# Altium footprint library mamsense_button.PcbLib: 197 footprints (part 8 of 13)
Each footprint in its own frame and in the unit in brackets; x right, y up, seen from the top. Pads: shape width x height; smd on the part's side, far side on the other; paste and mask are expansions set on the pad; w line width, h text height; cw(c..) or ccw(c..) is an arc to the next point about the centre after c.
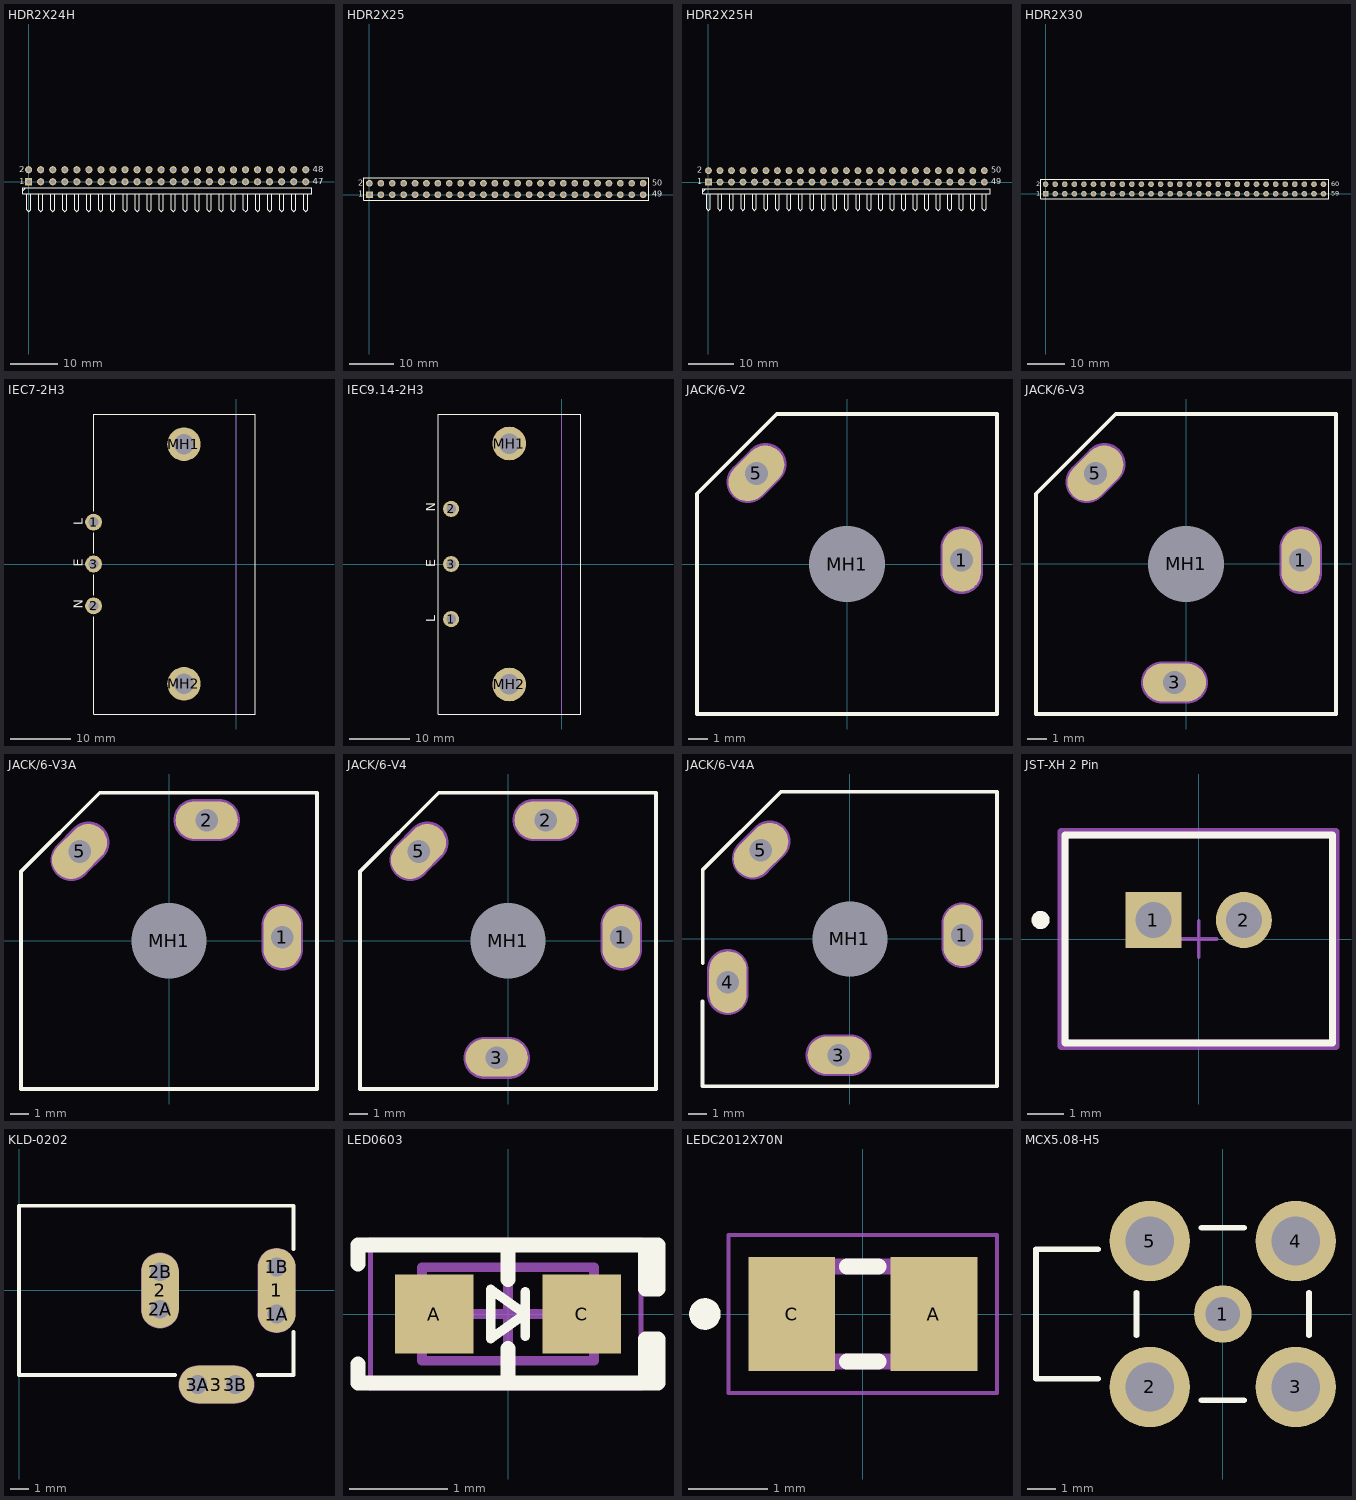
[diagram p7: the footprints below, top view; thin cyan lines are the x and y axes]

## HDR2X24H [mm] "Connector; Header; 24x2 Position; Right Angle"
pads (48):
  rect 1.5x1.5 hole 0.9: 1(0,0)
  round 1.5 hole 0.9: 2(0,2.54) 3(2.54,0) 4(2.54,2.54) 5(5.08,0) 6(5.08,2.54) 7(7.62,0) 8(7.62,2.54) 9(10.16,0) 10(10.16,2.54) 11(12.7,0) 12(12.7,2.54) 13(15.24,0) 14(15.24,2.54) 15(17.78,0) 16(17.78,2.54) 17(20.32,0) 18(20.32,2.54) 19(22.86,0) 20(22.86,2.54) 21(25.4,0) 22(25.4,2.54) 23(27.94,0) 24(27.94,2.54) 25(30.48,0) 26(30.48,2.54) 27(33.02,0) 28(33.02,2.54) 29(35.56,0) 30(35.56,2.54) 31(38.1,0) 32(38.1,2.54) 33(40.64,0) 34(40.64,2.54) 35(43.18,0) 36(43.18,2.54) 37(45.72,0) 38(45.72,2.54) 39(48.26,0) 40(48.26,2.54) 41(50.8,0) 42(50.8,2.54) 43(53.34,0) 44(53.34,2.54) 45(55.88,0) 46(55.88,2.54) 47(58.42,0) 48(58.42,2.54)
Top Overlay:
  lines w0.2: -1.27,-1.905 -0.635,-1.27 ; -0.423,-2.54 -0.423,-5.927 0,-6.35 0.423,-5.927 0.423,-2.54 ; 2.117,-2.54 2.117,-5.927 2.54,-6.35 2.963,-5.927 2.963,-2.54 ; 4.657,-2.54 4.657,-5.927 5.08,-6.35 5.503,-5.927 5.503,-2.54 ; 7.197,-2.54 7.197,-5.927 7.62,-6.35 8.043,-5.927 8.043,-2.54 ; 9.737,-2.54 9.737,-5.927 10.16,-6.35 10.583,-5.927 10.583,-2.54 ; 12.277,-2.54 12.277,-5.927 12.7,-6.35 13.123,-5.927 13.123,-2.54 ; 14.817,-2.54 14.817,-5.927 15.24,-6.35 15.663,-5.927 15.663,-2.54 ; 17.357,-2.54 17.357,-5.927 17.78,-6.35 18.203,-5.927 18.203,-2.54 ; 19.897,-2.54 19.897,-5.927 20.32,-6.35 20.743,-5.927 20.743,-2.54 ; 22.437,-2.54 22.437,-5.927 22.86,-6.35 23.283,-5.927 23.283,-2.54 ; 24.977,-2.54 24.977,-5.927 25.4,-6.35 25.823,-5.927 25.823,-2.54 ; 27.517,-2.54 27.517,-5.927 27.94,-6.35 28.363,-5.927 28.363,-2.54 ; 30.057,-2.54 30.057,-5.927 30.48,-6.35 30.903,-5.927 30.903,-2.54 ; 32.597,-2.54 32.597,-5.927 33.02,-6.35 33.443,-5.927 33.443,-2.54 ; 35.137,-2.54 35.137,-5.927 35.56,-6.35 35.983,-5.927 35.983,-2.54 ; 37.677,-2.54 37.677,-5.927 38.1,-6.35 38.523,-5.927 38.523,-2.54 ; 40.217,-2.54 40.217,-5.927 40.64,-6.35 41.063,-5.927 41.063,-2.54 ; 42.757,-2.54 42.757,-5.927 43.18,-6.35 43.603,-5.927 43.603,-2.54 ; 45.297,-2.54 45.297,-5.927 45.72,-6.35 46.143,-5.927 46.143,-2.54 ; 47.837,-2.54 47.837,-5.927 48.26,-6.35 48.683,-5.927 48.683,-2.54 ; 50.377,-2.54 50.377,-5.927 50.8,-6.35 51.223,-5.927 51.223,-2.54 ; 52.917,-2.54 52.917,-5.927 53.34,-6.35 53.763,-5.927 53.763,-2.54 ; 55.457,-2.54 55.457,-5.927 55.88,-6.35 56.303,-5.927 56.303,-2.54 ; 57.997,-2.54 57.997,-5.927 58.42,-6.35 58.843,-5.927 58.843,-2.54 ; -1.27,-2.54 59.69,-2.54 59.69,-1.27 -1.27,-1.27 -1.27,-2.54
  text "2" at -2.032,2.032 h1.27
  text "1" at -2.032,-0.508 h1.27
  text "47" at 59.944,-0.508 h1.27
  text "48" at 59.944,2.032 h1.27

## HDR2X25 [mm] "Connector; Header; 25x2 Position"
pads (50):
  rect 1.5x1.5 hole 0.9: 1(0,0)
  round 1.5 hole 0.9: 2(0,2.54) 3(2.54,0) 4(2.54,2.54) 5(5.08,0) 6(5.08,2.54) 7(7.62,0) 8(7.62,2.54) 9(10.16,0) 10(10.16,2.54) 11(12.7,0) 12(12.7,2.54) 13(15.24,0) 14(15.24,2.54) 15(17.78,0) 16(17.78,2.54) 17(20.32,0) 18(20.32,2.54) 19(22.86,0) 20(22.86,2.54) 21(25.4,0) 22(25.4,2.54) 23(27.94,0) 24(27.94,2.54) 25(30.48,0) 26(30.48,2.54) 27(33.02,0) 28(33.02,2.54) 29(35.56,0) 30(35.56,2.54) 31(38.1,0) 32(38.1,2.54) 33(40.64,0) 34(40.64,2.54) 35(43.18,0) 36(43.18,2.54) 37(45.72,0) 38(45.72,2.54) 39(48.26,0) 40(48.26,2.54) 41(50.8,0) 42(50.8,2.54) 43(53.34,0) 44(53.34,2.54) 45(55.88,0) 46(55.88,2.54) 47(58.42,0) 48(58.42,2.54) 49(60.96,0) 50(60.96,2.54)
Top Overlay:
  lines w0.2: -1.27,-1.27 62.23,-1.27 62.23,3.81 -1.27,3.81 -1.27,-1.27
  text "50" at 62.992,2.032 h1.27
  text "49" at 62.992,-0.508 h1.27
  text "1" at -2.54,-0.508 h1.27
  text "2" at -2.54,2.032 h1.27

## HDR2X25H [mm] "Connector; Header; 25x2 Position; Right Angle"
pads (50):
  rect 1.5x1.5 hole 0.9: 1(0,0)
  round 1.5 hole 0.9: 2(0,2.54) 3(2.54,0) 4(2.54,2.54) 5(5.08,0) 6(5.08,2.54) 7(7.62,0) 8(7.62,2.54) 9(10.16,0) 10(10.16,2.54) 11(12.7,0) 12(12.7,2.54) 13(15.24,0) 14(15.24,2.54) 15(17.78,0) 16(17.78,2.54) 17(20.32,0) 18(20.32,2.54) 19(22.86,0) 20(22.86,2.54) 21(25.4,0) 22(25.4,2.54) 23(27.94,0) 24(27.94,2.54) 25(30.48,0) 26(30.48,2.54) 27(33.02,0) 28(33.02,2.54) 29(35.56,0) 30(35.56,2.54) 31(38.1,0) 32(38.1,2.54) 33(40.64,0) 34(40.64,2.54) 35(43.18,0) 36(43.18,2.54) 37(45.72,0) 38(45.72,2.54) 39(48.26,0) 40(48.26,2.54) 41(50.8,0) 42(50.8,2.54) 43(53.34,0) 44(53.34,2.54) 45(55.88,0) 46(55.88,2.54) 47(58.42,0) 48(58.42,2.54) 49(60.96,0) 50(60.96,2.54)
Top Overlay:
  lines w0.2: -1.27,-2.117 -0.635,-1.482 ; -0.423,-2.54 -0.423,-5.927 0,-6.35 0.423,-5.927 0.423,-2.54 ; 2.117,-2.54 2.117,-5.927 2.54,-6.35 2.963,-5.927 2.963,-2.54 ; 4.657,-2.54 4.657,-5.927 5.08,-6.35 5.503,-5.927 5.503,-2.54 ; 7.197,-2.54 7.197,-5.927 7.62,-6.35 8.043,-5.927 8.043,-2.54 ; 9.737,-2.54 9.737,-5.927 10.16,-6.35 10.583,-5.927 10.583,-2.54 ; 12.277,-2.54 12.277,-5.927 12.7,-6.35 13.123,-5.927 13.123,-2.54 ; 14.817,-2.54 14.817,-5.927 15.24,-6.35 15.663,-5.927 15.663,-2.54 ; 17.357,-2.54 17.357,-5.927 17.78,-6.35 18.203,-5.927 18.203,-2.54 ; 19.897,-2.54 19.897,-5.927 20.32,-6.35 20.743,-5.927 20.743,-2.54 ; 22.437,-2.54 22.437,-5.927 22.86,-6.35 23.283,-5.927 23.283,-2.54 ; 24.977,-2.54 24.977,-5.927 25.4,-6.35 25.823,-5.927 25.823,-2.54 ; 27.517,-2.54 27.517,-5.927 27.94,-6.35 28.363,-5.927 28.363,-2.54 ; 30.057,-2.54 30.057,-5.927 30.48,-6.35 30.903,-5.927 30.903,-2.54 ; 32.597,-2.54 32.597,-5.927 33.02,-6.35 33.443,-5.927 33.443,-2.54 ; 35.137,-2.54 35.137,-5.927 35.56,-6.35 35.983,-5.927 35.983,-2.54 ; 37.677,-2.54 37.677,-5.927 38.1,-6.35 38.523,-5.927 38.523,-2.54 ; 40.217,-2.54 40.217,-5.927 40.64,-6.35 41.063,-5.927 41.063,-2.54 ; 42.757,-2.54 42.757,-5.927 43.18,-6.35 43.603,-5.927 43.603,-2.54 ; 45.297,-2.54 45.297,-5.927 45.72,-6.35 46.143,-5.927 46.143,-2.54 ; 47.837,-2.54 47.837,-5.927 48.26,-6.35 48.683,-5.927 48.683,-2.54 ; 50.377,-2.54 50.377,-5.927 50.8,-6.35 51.223,-5.927 51.223,-2.54 ; 52.917,-2.54 52.917,-5.927 53.34,-6.35 53.763,-5.927 53.763,-2.54 ; 55.457,-2.54 55.457,-5.927 55.88,-6.35 56.303,-5.927 56.303,-2.54 ; 57.997,-2.54 57.997,-5.927 58.42,-6.35 58.843,-5.927 58.843,-2.54 ; 60.537,-2.54 60.537,-5.927 60.96,-6.35 61.383,-5.927 61.383,-2.54 ; -1.27,-2.54 -1.27,-1.482 62.23,-1.482 62.23,-2.54 -1.27,-2.54
  text "2" at -2.54,2.032 h1.27
  text "1" at -2.54,-0.508 h1.27
  text "49" at 62.484,-0.508 h1.27
  text "50" at 62.484,2.032 h1.27

## HDR2X30 [mm] "Connector; Header; 30x2 Position"
pads (60):
  rect 1.5x1.5 hole 0.9: 1(0,0)
  round 1.5 hole 0.9: 2(0,2.54) 3(2.54,0) 4(2.54,2.54) 5(5.08,0) 6(5.08,2.54) 7(7.62,0) 8(7.62,2.54) 9(10.16,0) 10(10.16,2.54) 11(12.7,0) 12(12.7,2.54) 13(15.24,0) 14(15.24,2.54) 15(17.78,0) 16(17.78,2.54) 17(20.32,0) 18(20.32,2.54) 19(22.86,0) 20(22.86,2.54) 21(25.4,0) 22(25.4,2.54) 23(27.94,0) 24(27.94,2.54) 25(30.48,0) 26(30.48,2.54) 27(33.02,0) 28(33.02,2.54) 29(35.56,0) 30(35.56,2.54) 31(38.1,0) 32(38.1,2.54) 33(40.64,0) 34(40.64,2.54) 35(43.18,0) 36(43.18,2.54) 37(45.72,0) 38(45.72,2.54) 39(48.26,0) 40(48.26,2.54) 41(50.8,0) 42(50.8,2.54) 43(53.34,0) 44(53.34,2.54) 45(55.88,0) 46(55.88,2.54) 47(58.42,0) 48(58.42,2.54) 49(60.96,0) 50(60.96,2.54) 51(63.5,0) 52(63.5,2.54) 53(66.04,0) 54(66.04,2.54) 55(68.58,0) 56(68.58,2.54) 57(71.12,0) 58(71.12,2.54) 59(73.66,0) 60(73.66,2.54)
Top Overlay:
  lines w0.2: -1.27,-1.27 75.06,-1.27 75.06,3.81 -1.27,3.81 -1.27,-1.27
  text "60" at 75.692,2.032 h1.27
  text "59" at 75.692,-0.508 h1.27
  text "1" at -2.54,-0.508 h1.27
  text "2" at -2.54,2.032 h1.27
Bottom Overlay:
  text "1" at -55.88,-0.508 h1.27

## IEC7-2H3 [mm] "Mains Power Outlet, IEC60 320-2-2 F, PC Flange Rear Mount"
height 30.4
pads (5):
  round 2.8 hole 1.7: 1(-23.8,7) 2(-23.8,-7) 3(-23.8,0)
  round 5.6 hole 3.4: MH1(-8.7,20) MH2(-8.7,-20)
Top Overlay:
  lines w0.2: -23.8,-8.8 -23.8,-25.05 3.2,-25.05 3.2,25.05 -23.8,25.05 -23.8,8.8 ; -23.8,-5.2 -23.8,-1.8 ; -23.8,1.8 -23.8,5.2
  text "L" at -25.6,6.5 h1.5
  text "E" at -25.6,-0.5 h1.5
  text "N" at -25.6,-7.5 h1.5
Mechanical 1:
  lines w0.1: 0,-25.05 0,25.05
  text "PCB Edge" at -0.4,-24.4 h0.5

## IEC9.14-2H3 [mm] "Mains Power Inlet, IEC60 320-1 C14, PC Flange Rear Mount"
height 27.8
pads (5):
  round 2.65 hole 1.6: 1(-18.35,-9.14) 2(-18.35,9.14) 3(-18.35,0)
  round 5.6 hole 3.4: MH1(-8.7,20) MH2(-8.7,-20)
Top Overlay:
  lines w0.2: -20.5,-24.9 -20.5,24.9 3.2,24.9 3.2,-24.9 -20.5,-24.9
  text "N" at -21,8.64 h1.5
  text "E" at -21,-0.5 h1.5
  text "L" at -21,-9.64 h1.5
Mechanical 1:
  lines w0.1: 0,-24.9 0,24.9
  text "PCB Edge" at -0.383,-24.4 h0.5

## JACK/6-V2 [mm] "Connector; Jack Socket, 1/4\" [6.5mm], Thru-Hole, 2 Position, Vertical, Body 15.7 x 15.7 x 31 mm (WxTxH)"
height 31.1
pads (3):
  oval 2x3.3 hole 1.2: 1(6,0.2)
  oval 2x3.3 hole 1.2 rot 135: 5(-4.738,4.738)
  round 3.7 hole 4: MH1(0,0)
Top Overlay:
  lines w0.2: -7.85,-7.85 7.85,-7.85 7.85,7.85 -3.675,7.85 -7.85,3.675 -7.85,-7.85
Mechanical 1:
  lines w1.2: -5.185,4.295 -4.266,5.214 ; 6,-0.45 6,0.85
  text "Alert PCB fab to slot details" at -7.9,9.66 h0.3
  text "Slot 1.2x2.5mm, PTH" at -7.9,9.16 h0.3
  text "Assign keep-out area to slot" at -7.9,10.16 h0.3
  text "Mech 1 - Slot cut-out" at -7.9,8.66 h0.3
  text "Mech 2 - Clearance, move to internal plane if present" at -7.9,8.16 h0.3
Top Assembly:
  lines w2.216: -5.185,4.295 -4.266,5.214 ; 6,-0.45 6,0.85

## JACK/6-V3 [mm] "Connector; Jack Socket, 1/4\" [6.5mm], Thru-Hole, 3 Position, Vertical, Body 15.7 x 15.7 x 31 mm (WxTxH)"
height 31.1
pads (4):
  oval 2x3.3 hole 1.2: 1(6,0.2)
  oval 3.3x2 hole 1.2: 3(-0.6,-6.2)
  oval 2x3.3 hole 1.2 rot 135: 5(-4.738,4.738)
  round 3.7 hole 4: MH1(0,0)
Top Overlay:
  lines w0.2: -7.85,-7.85 -7.85,3.675 -3.675,7.85 7.85,7.85 7.85,-7.85 -7.85,-7.85
Mechanical 1:
  lines w1.2: -5.185,4.295 -4.266,5.214 ; -1.25,-6.2 0.05,-6.2 ; 6,-0.45 6,0.85
  text "Mech 2 - Clearance, move to internal plane if present" at -7.9,8.16 h0.3
  text "Mech 1 - Slot cut-out" at -7.9,8.66 h0.3
  text "Assign keep-out area to slot" at -7.9,10.16 h0.3
  text "Slot 1.2x2.5mm, PTH" at -7.9,9.16 h0.3
  text "Alert PCB fab to slot details" at -7.9,9.66 h0.3
Top Assembly:
  lines w2.216: -5.185,4.295 -4.266,5.214 ; -1.25,-6.2 0.05,-6.2 ; 6,-0.45 6,0.85

## JACK/6-V3A [mm] "Connector; Jack Socket, 1/4\" [6.5mm], Thru-Hole, 3 Position, Vertical, Body 15.7 x 15.7 x 31 mm (WxTxH)"
height 31.1
pads (4):
  oval 2x3.3 hole 1.2: 1(6,0.2)
  oval 3.3x2 hole 1.2: 2(2,6.4)
  oval 2x3.3 hole 1.2 rot 135: 5(-4.738,4.738)
  round 3.7 hole 4: MH1(0,0)
Top Overlay:
  lines w0.2: -7.85,-7.85 7.85,-7.85 7.85,7.85 -3.675,7.85 -7.85,3.675 -7.85,-7.85
Mechanical 1:
  lines w1.2: -5.185,4.295 -4.266,5.214 ; 1.35,6.4 2.65,6.4 ; 6,-0.45 6,0.85
  text "Mech 2 - Clearance, move to internal plane if present" at -7.9,8.16 h0.3
  text "Mech 1 - Slot cut-out" at -7.9,8.66 h0.3
  text "Assign keep-out area to slot" at -7.9,10.16 h0.3
  text "Slot 1.2x2.5mm, PTH" at -7.9,9.16 h0.3
  text "Alert PCB fab to slot details" at -7.9,9.66 h0.3
Top Assembly:
  lines w2.216: -5.185,4.295 -4.266,5.214 ; 1.35,6.4 2.65,6.4 ; 6,-0.45 6,0.85

## JACK/6-V4 [mm] "Connector; Jack Socket, 1/4\" [6.5mm], Thru-Hole, 4 Position, Vertical, Body 15.7 x 15.7 x 31 mm (WxTxH)"
height 31.1
pads (5):
  oval 2x3.3 hole 1.2: 1(6,0.2)
  oval 3.3x2 hole 1.2: 2(2,6.4) 3(-0.6,-6.2)
  oval 2x3.3 hole 1.2 rot 135: 5(-4.738,4.738)
  round 3.7 hole 4: MH1(0,0)
Top Overlay:
  lines w0.2: -7.85,-7.85 7.85,-7.85 7.85,7.85 -3.675,7.85 -7.85,3.675 -7.85,-7.85
Mechanical 1:
  lines w1.2: -5.185,4.295 -4.266,5.214 ; -1.25,-6.2 0.05,-6.2 ; 1.35,6.4 2.65,6.4 ; 6,-0.45 6,0.85
  text "Mech 2 - Clearance, move to internal plane if present" at -7.9,8.16 h0.3
  text "Mech 1 - Slot cut-out" at -7.9,8.66 h0.3
  text "Assign keep-out area to slot" at -7.9,10.16 h0.3
  text "Slot 1.2x2.5mm, PTH" at -7.9,9.16 h0.3
  text "Alert PCB fab to slot details" at -7.9,9.66 h0.3
Top Assembly:
  lines w2.216: -5.185,4.295 -4.266,5.214 ; -1.25,-6.2 0.05,-6.2 ; 1.35,6.4 2.65,6.4 ; 6,-0.45 6,0.85

## JACK/6-V4A [mm] "Connector; Jack Socket, 1/4\" [6.5mm], Thru-Hole, 4 Position, Vertical, Body 15.7 x 15.7 x 31 mm (WxTxH)"
height 31.1
pads (5):
  oval 2x3.3 hole 1.2: 1(6,0.2) 4(-6.5,-2.3)
  oval 3.3x2 hole 1.2: 3(-0.6,-6.2)
  oval 2x3.3 hole 1.2 rot 135: 5(-4.738,4.738)
  round 3.7 hole 4: MH1(0,0)
Top Overlay:
  lines w0.2: -7.85,-3.32 -7.85,-7.85 7.85,-7.85 7.85,7.85 -3.675,7.85 -7.85,3.675 -7.85,-1.28
Mechanical 1:
  lines w1.2: -6.5,-2.95 -6.5,-1.65 ; -5.185,4.295 -4.266,5.214 ; -1.25,-6.2 0.05,-6.2 ; 6,-0.45 6,0.85
  text "Mech 2 - Clearance, move to internal plane if present" at -7.9,8.16 h0.3
  text "Mech 1 - Slot cut-out" at -7.9,8.66 h0.3
  text "Assign keep-out area to slot" at -7.9,10.16 h0.3
  text "Slot 1.2x2.5mm, PTH" at -7.9,9.16 h0.3
  text "Alert PCB fab to slot details" at -7.9,9.66 h0.3
Top Assembly:
  lines w2.216: -6.5,-2.95 -6.5,-1.65 ; -5.185,4.295 -4.266,5.214 ; -1.25,-6.2 0.05,-6.2 ; 6,-0.45 6,0.85

## JST-XH 2 Pin [mm]
pads (2):
  rect 1.55x1.55 hole 1 paste-1000 mask+0: 1(-1.25,0.525)
  round 1.55 hole 1 paste-1000 mask+0: 2(1.25,0.525)
Top Overlay:
  circle w0.25: c-4.375,0.525 r0.125
  lines w0.2: -3.7,-2.875 3.7,-2.875 3.7,2.875 -3.7,2.875 -3.7,-2.875
Mechanical 5:
  lines w0.2: -3.8,-2.975 3.8,-2.975 3.8,2.975 -3.8,2.975 -3.8,-2.975
Mechanical 13:
  lines w0.2: -3.7,-2.875 3.7,-2.875 3.7,2.875 -3.7,2.875 -3.7,-2.875
Mechanical 15:
  lines w0.2: -3.8,-2.975 3.8,-2.975 3.8,2.975 -3.8,2.975 -3.8,-2.975
Mechanical 16:
  lines w0.1: -0.5,0 0.5,0 ; 0,-0.5 0,0.5
3D body "Conn_JST_B2B-XH-A_LF_SN_eec.STEP": height 0.25, standoff 0, extent -3.8,-2.975 3.8,2.975

## KLD-0202 [mm] "DC Power Jack, 2.5mm, KLD Series, PCB Mount"
pads (9):
  oval 2x4.5 all layers, no hole: 1(13.7,0)
  round 1.5 hole 1: 1A(13.7,-1.25) 1B(13.7,1.25) 2A(7.5,-1) 2B(7.5,1) 3A(9.5,-5) 3B(11.5,-5)
  oval 2x4 all layers, no hole: 2(7.5,0)
  oval 4x2 all layers, no hole: 3(10.5,-5)
Top Overlay:
  lines w0.2: 8.3,-4.5 0,-4.5 0,4.5 14.6,4.5 14.6,2.2 ; 12.7,-4.5 14.6,-4.5 14.6,-2.2
Mechanical 1:
  lines w1: 7.5,-1 7.5,1 ; 9.5,-5 11.5,-5 ; 13.7,-1.25 13.7,1.25
  text "Alert PCB fab to slot details" at 0.286,6.066 h0.3
  text "Assign keep-out area to slot" at 0.286,6.566 h0.3
  text "Mech 1 - Slot cut-out" at 0.286,5.566 h0.3
  text "Mech 2 - Clearance, move to internal plane if present" at 0.286,5.066 h0.3
Top Assembly:
  lines w2.016: 7.5,-1 7.5,1 ; 9.5,-5 11.5,-5 ; 13.7,-1.25 13.7,1.25

## LED0603 [mm]
pads (2):
  rect 0.8x0.8 smd: A(-0.75,0) C(0.75,0)
Top Overlay:
  lines w0.1: 0.175,-0.225 0.175,0 ; 0.175,0.225 0.175,0 ; 0.175,0 -0.175,0.25 -0.175,0 -0.175,-0.25 0.175,0
  lines w0.15: -1.524,-0.508 -1.524,-0.7 1.5,-0.7 ; -1.524,0.508 -1.524,0.7 1.5,0.7 ; 0,-0.7 0,-0.35 ; 0,0.35 0,0.7 ; 1.397,-0.7 1.524,-0.7 1.524,-0.254 1.397,-0.254 1.397,-0.7 ; 1.397,0.254 1.524,0.254 1.524,0.7 1.397,0.7 1.397,0.254
Mechanical 13:
  lines w0.1: -0.875,-0.475 -0.875,0.475 0.875,0.475 0.875,-0.475 -0.875,-0.475
Mechanical 15:
  lines w0.05: -1.397,-0.75 -1.397,0.75 1.35,0.75 1.35,-0.75 -1.397,-0.75
  lines w0.1: -0.475,0 0.475,0 ; 0,-0.475 0,0.475
3D body "LED 0603 Lens WHITE.STEP": height 0.53, standoff 0.18, extent -0.55,-0.4 0.55,0.4
3D body "LED 0603 Base WHITE.STEP": height 0.28, standoff 0, extent -0.8,-0.4 0.8,0.4

## LEDC2012X70N [mm]
pads (2):
  rect 1.1x1.45 smd: A(0.9,0) C(-0.9,0)
Top Overlay:
  circle w0.2: c-2,0 r0.1
  lines w0.2: -0.2,-0.6 0.2,-0.6 ; -0.2,0.6 0.2,0.6
Mechanical 13:
  region: 1,-0.6 0.5,-0.6 0.5,0.6 1,0.6
  region: -0.5,-0.6 -1,-0.6 -1,0.6 -0.5,0.6
  lines w0.2: -1,-0.6 -1,0.6 1,0.6 1,-0.6 -1,-0.6
Mechanical 15:
  lines w0.05: -1.7,-1 -1.7,1 1.7,1 1.7,-1 -1.7,-1
3D body "597-3222-407F.STEP": height 0.7, standoff 0, extent -1,-0.625 1,0.625

## MCX5.08-H5 [mm] "Connector; RF Coaxial, MCX, Thru-Hole; 5 Position; Right-Angle"
height 5.85
pads (5):
  round 2 hole 1.2: 1(0,0)
  round 2.8 hole 1.7: 2(-2.54,-2.54) 3(2.54,-2.54) 4(2.54,2.54) 5(-2.54,2.54)
Top Overlay:
  lines w0.2: -4.34,-2.25 -6.5,-2.25 -6.5,2.25 -4.34,2.25 ; -3,-0.74 -3,0.74 ; -0.74,-3 0.74,-3 ; -0.74,3 0.74,3 ; 3,-0.74 3,0.74